# EAGLE library part TINYFPGA_A (library fpga_game_console)
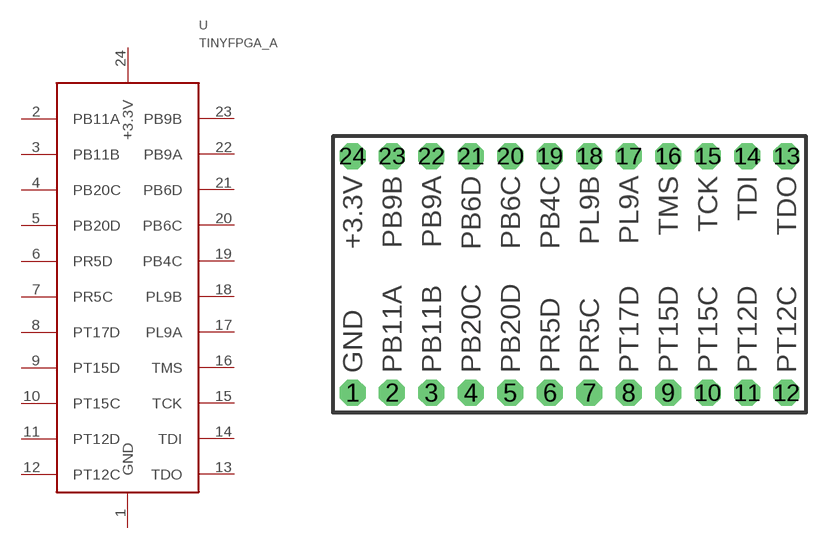
[diagram p1: symbol with the pads of TINYFPGA_A; footprint TINYFPGA_A]

Designator prefix -

## TINYFPGA_A  [TINYFPGA_A]
1  GND
2  PB11A
3  PB11B
4  PB20C
5  PB20D
6  PR5D
7  PR5C
8  PT17D
9  PT15D
10  PT15C
11  PT12D
12  PT12C
13  TDO
14  TDI
15  TCK
16  TMS
17  PL9A
18  PL9B
19  PB4C
20  PB6C
21  PB6D
22  PB9A
23  PB9B
24  +3.3V

## Footprint TINYFPGA_A (pad centres in mm)
drill 1 pad 1.676 octagon: 1 -13.97,-7.62; 2 -11.43,-7.62; 3 -8.89,-7.62; 4 -6.35,-7.62; 5 -3.81,-7.62; 6 -1.27,-7.62; 7 1.27,-7.62; 8 3.81,-7.62; 9 6.35,-7.62; 10 8.89,-7.62; 11 11.43,-7.62; 12 13.97,-7.62; 13 13.97,7.62; 14 11.43,7.62; 15 8.89,7.62; 16 6.35,7.62; 17 3.81,7.62; 18 1.27,7.62; 19 -1.27,7.62; 20 -3.81,7.62; 21 -6.35,7.62; 22 -8.89,7.62; 23 -11.43,7.62; 24 -13.97,7.62